# Altium schematic symbol library UVY1H102MHD.SchLib: 2 symbols
Pins are listed as number, name and electrical type; pins without a type are passive.

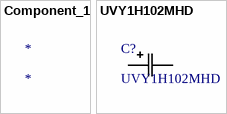
[diagram p0: symbols Component_1 to UVY1H102MHD]

## Component_1
designator *

## UVY1H102MHD
designator C?
No Description Available; Manufacturer_Name: Nichicon; Copyright: Copyright (C) 2025 Ultra Librarian. All rights reserved.; Manufacturer_Part_Number: UVY1H102MHD
footprint CAP_12.5 X 25_NCH
pins: 1, 2